# Altium schematic symbol library RGB.SCHLIB: 1 symbol
Pins are listed as number, name and electrical type; pins without a type are passive.

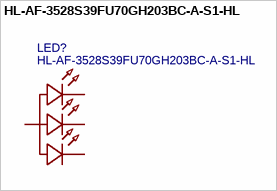
[diagram p0: symbol HL-AF-3528S39FU70GH203BC-A-S1-HL]

## HL-AF-3528S39FU70GH203BC-A-S1-HL
designator LED?
BOM_Manufacturer: HONGLITRONIC(Hongli Zhihui (HONGLITRONIC)); Contributor: LCSC; BOM_Supplier: LCSC; BOM_Supplier Part: C516144; BOM_Manufacturer Part: HL-AF-3528S39FU70GH203BC-A-S1-HL; spicePre: L; spiceSymbolName: HL-AF-3528S39FU70GH203BC-A-S1-HL
footprint LED-SMD_4P-L3.2-W2.8-P1.70-TL
pins: 1 R, 2 A, 3 G, 4 B